# Altium schematic symbol library Schlib1.SchLib: 22 symbols
Pins are listed as number, name and electrical type; pins without a type are passive.

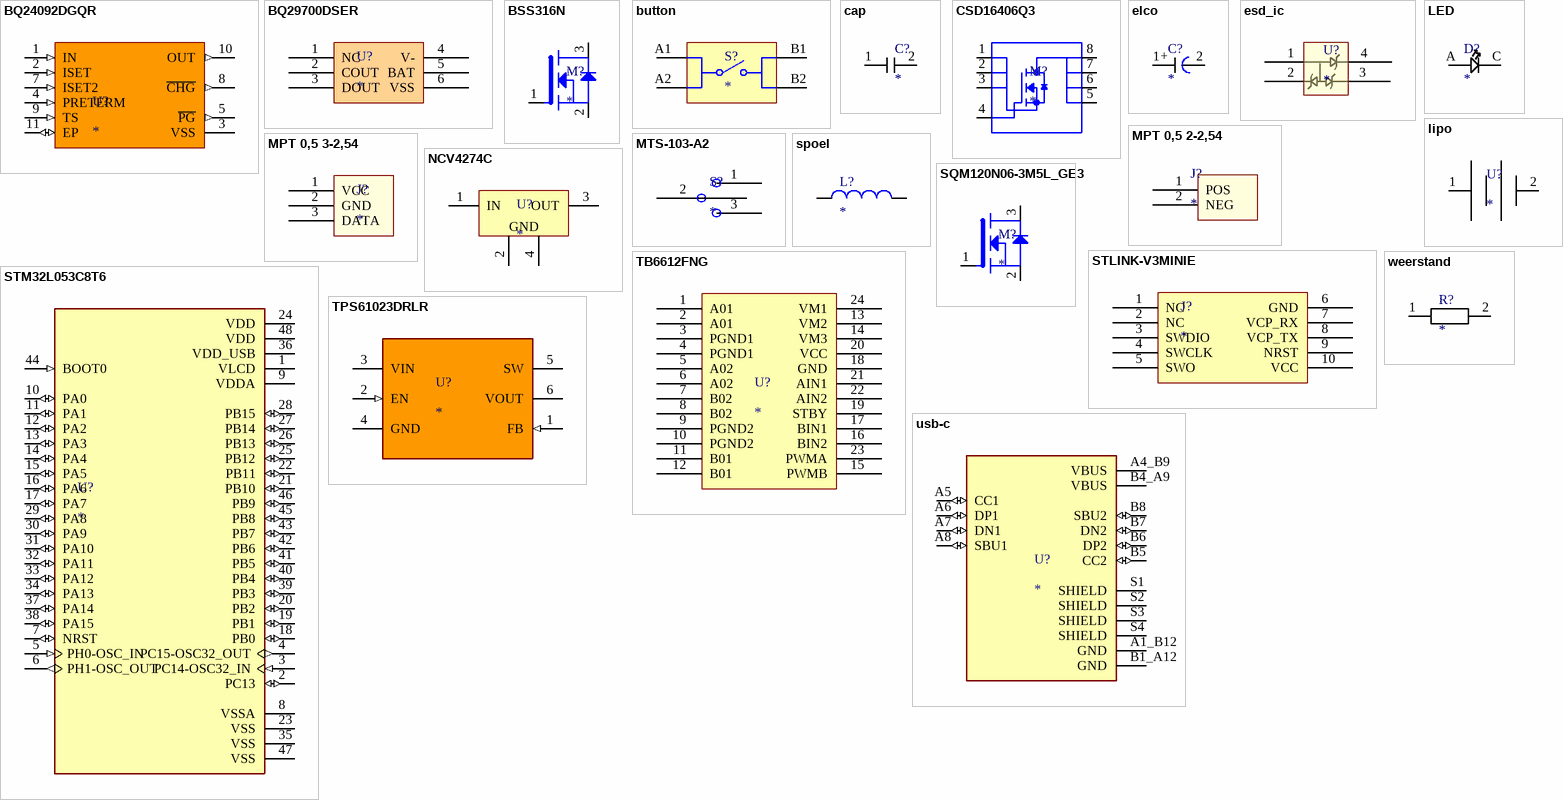
[diagram p0: symbols BQ24092DGQR to weerstand]

## BQ24092DGQR
designator U?
footprint BQ24092DGQR
pins: 1 IN (in), 2 ISET (in), 3 VSS (power), 4 PRETERM (in), 5 ~{PG} (out), 7 ISET2 (in), 8 ~{CHG} (out), 9 TS (in), 10 OUT (out), 11 EP (io)

## BQ29700DSER
designator U?
footprint BQ29700DSER
pins: 1 NC, 2 COUT, 3 DOUT, 4 V-, 5 BAT, 6 VSS

## BSS316N
designator M?
footprint BSS316N
pins: 1 G, 2 S, 3 D

## button
designator S?
footprint BUTTON
pins: A1, A2, B1, B2

## cap
designator C?
footprint 0603
pins: 1 G, 2 G

## CSD16406Q3
designator M?
footprint CSD16406Q3
pins: 1 S_1, 2 S_2, 3 S_3, 4 G, 5 D_5, 6 D_6, 7 D_7, 8 D_8

## elco
designator C?
footprint 0603
pins: 1 +, 2 G

## esd_ic
designator U?
footprint esd_ic
pins: 1, 2, 3, 4

## LED
designator D?
footprint LED
pins: A, C

## lipo
designator U?
footprint MPT 0,5 2-2,54
pins: 1 G, 2 G

## MPT 0,5 2-2,54
designator J?
footprint MPT 0,5 2-2,54
pins: 1 POS, 2 NEG

## MPT 0,5 3-2,54
designator J?
footprint MPT 0,5 3-2,54
pins: 1 VCC, 2 GND, 3 DATA

## MTS-103-A2
designator S?
footprint MTS-103-A2
pins: 1, 2, 3

## NCV4274C
designator U?
footprint NCV4274C
pins: 1 IN (power), 2 GND (power), 3 OUT (power), 4 GND (power)

## spoel
designator L?
footprint 0603
pins: 1, 2

## SQM120N06-3M5L_GE3
designator M?
footprint IPB022N12NM6
pins: 1 G, 2 S, 3 D

## STLINK-V3MINIE
designator J?
footprint STLINK-V3MINIE
pins: 1 NC, 2 NC, 3 SWDIO, 4 SWCLK, 5 SWO, 6 GND, 7 VCP_RX, 8 VCP_TX, 9 NRST, 10 VCC

## STM32L053C8T6
designator U?
footprint stm32l053c8t6
pins: 1 VLCD (power), 2 PC13 (io), 3 PC14-OSC32_IN (in), 4 PC15-OSC32_OUT (out), 5 PH0-OSC_IN (in), 6 PH1-OSC_OUT (out), 7 NRST (io), 8 VSSA (power), 9 VDDA (power), 10 PA0 (io), 11 PA1 (io), 12 PA2 (io), 13 PA3 (io), 14 PA4 (io), 15 PA5 (io), 16 PA6 (io), 17 PA7 (io), 18 PB0 (io), 19 PB1 (io), 20 PB2 (io), 21 PB10 (io), 22 PB11 (io), 23 VSS (power), 24 VDD (power), 25 PB12 (io), 26 PB13 (io), 27 PB14 (io), 28 PB15 (io), 29 PA8 (io), 30 PA9 (io), 31 PA10 (io), 32 PA11 (io), 33 PA12 (io), 34 PA13 (io), 35 VSS (power), 36 VDD_USB (power), 37 PA14 (io), 38 PA15 (io), 39 PB3 (io), 40 PB4 (io), 41 PB5 (io), 42 PB6 (io), 43 PB7 (io), 44 BOOT0 (in), 45 PB8 (io), 46 PB9 (io), 47 VSS (power), 48 VDD (power)

## TB6612FNG
designator U?
footprint TB6612FNG
pins: 1 A01, 2 A01, 3 PGND1 (power), 4 PGND1 (power), 5 A02, 6 A02, 7 B02, 8 B02, 9 PGND2 (power), 10 PGND2 (power), 11 B01, 12 B01, 13 VM2 (power), 14 VM3 (power), 15 PWMB, 16 BIN2, 17 BIN1, 18 GND (power), 19 STBY, 20 VCC (power), 21 AIN1, 22 AIN2, 23 PWMA, 24 VM1 (power)

## TPS61023DRLR
designator U?
footprint TPS61023DRLR
pins: 1 FB (in), 2 EN (in), 3 VIN (power), 4 GND (power), 5 SW (power), 6 VOUT (power)

## usb-c
designator U?
footprint usb-c
pins: A1_B12 GND (power), A4_B9 VBUS (power), A5 CC1 (io), A6 DP1 (io), A7 DN1 (io), A8 SBU1 (io), B1_A12 GND (power), B4_A9 VBUS (power), B5 CC2 (io), B6 DP2 (io), B7 DN2 (io), B8 SBU2 (io), S1 SHIELD, S2 SHIELD, S3 SHIELD, S4 SHIELD

## weerstand
designator R?
footprint 0603
pins: 1, 2 G